# EAGLE library part USB3.0-A_DOUBLE (library Public)
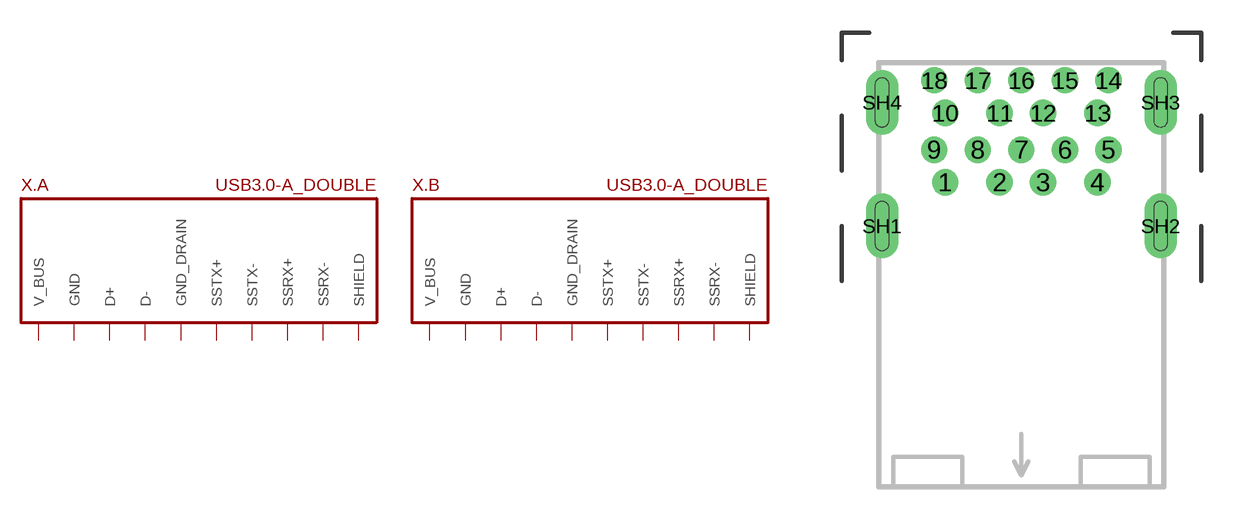
[diagram p131: symbol with the pads of USB-A_USB1100; footprint USB-A_USB1100]

Designator prefix X; gates .A=USB3.0 .B=USB3.0

## USB3.0-A_DOUBLE (VALUE: USB3.0-A)  [USB-A_USB1100]
1  .A:V_BUS
2  .A:D-
3  .A:D+
4  .A:GND
5  .A:SSRX-
6  .A:SSRX+
7  .A:GND_DRAIN
8  .A:SSTX-
9  .A:SSTX+
10  .B:V_BUS
11  .B:D-
12  .B:D+
13  .B:GND
14  .B:SSRX-
15  .B:SSRX+
16  .B:GND_DRAIN
17  .B:SSTX-
18  .B:SSTX+
SH1  .A:SHIELD
SH2  .A:SHIELD
SH3  .B:SHIELD
SH4  .B:SHIELD

## Footprint USB-A_USB1100 (pad centres in mm)
drill 0.7: 1 -3.5,2; 2 -1,2; 3 1,2; 4 3.5,2; 5 4,3.5; 6 2,3.5; 7 0,3.5; 8 -2,3.5; 9 -4,3.5; 10 -3.5,5.2; 11 -1,5.2; 12 1,5.2; 13 3.5,5.2; 14 4,6.7; 15 2,6.7; 16 0,6.7; 17 -2,6.7; 18 -4,6.7
drill 0.6 pad 1.5 long: SH1 -6.4,0; SH2 6.4,0; SH3 6.4,5.68; SH4 -6.4,5.68